# Altium footprint library 282834-3.PcbLib: 2 footprints
Each footprint in its own frame and in the unit in brackets; x right, y up, seen from the top. Pads: shape width x height; smd on the part's side, far side on the other; paste and mask are expansions set on the pad; w line width, h text height; cw(c..) or ccw(c..) is an arc to the next point about the centre after c.
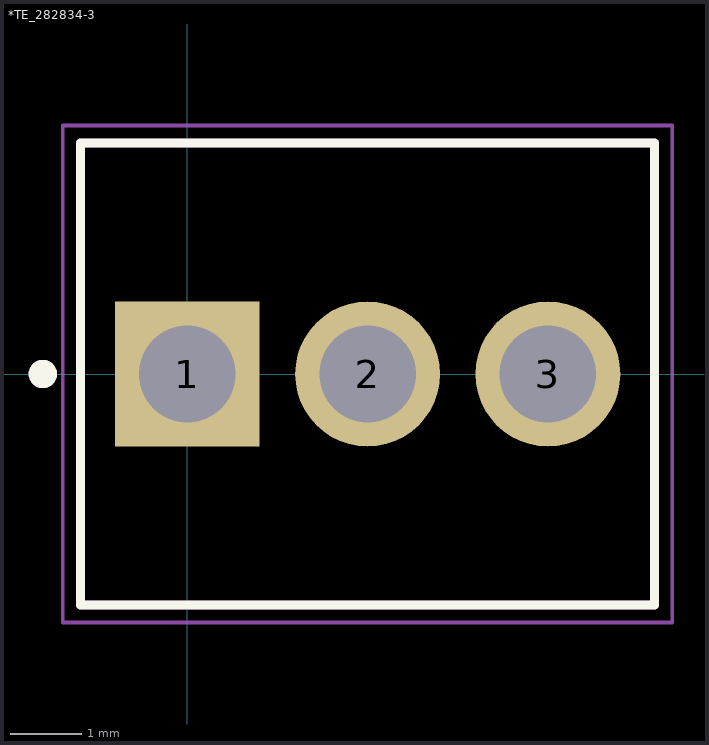
[diagram p0: the footprints below, top view; thin cyan lines are the x and y axes]

## *TE_282834-3 [mm]
pads (3):
  rect 2.04x2.04 hole 1.36: 1(0,0)
  round 2.04 hole 1.36: 2(2.54,0) 3(5.08,0)
Top Overlay:
  circle w0.2: c-2.032,0 r0.1
  lines w0.127: -1.5,-3.25 -1.5,3.25 6.58,3.25 6.58,-3.25 -1.5,-3.25
Mechanical 4:
  circle w0.2: c-2.032,0 r0.1
  circle w0.2: c-2.032,0 r0.1
  lines w0.127: -1.5,-3.25 -1.5,3.25 ; -1.5,-3.25 6.58,-3.25 ; -1.5,-3.25 -1.5,3.25 ; -1.5,-3.25 6.58,-3.25 ; -1.5,3.25 6.58,3.25 ; -1.5,3.25 6.58,3.25 ; 6.58,-3.25 6.58,3.25 ; 6.58,-3.25 6.58,3.25
Mechanical 16:
  lines w0.05: -1.75,-3.5 -1.75,3.5 6.83,3.5 6.83,-3.5 -1.75,-3.5

## PCBComponent_1 [mil]